# Altium schematic symbol library PS,DC-DC,5Vin,5Vout,1W,TEA 1-0505.SchLib: 1 symbol
Pins are listed as number, name and electrical type; pins without a type are passive.

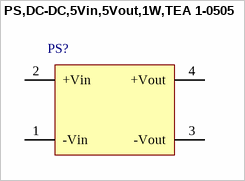
[diagram p0: symbol PS,DC-DC,5Vin,5Vout,1W,TEA 1-0505]

## PS,DC-DC,5Vin,5Vout,1W,TEA 1-0505
designator PS?
pins: 1 -Vin (power), 2 +Vin (power), 3 -Vout (power), 4 +Vout (power)